# EAGLE library part BLOX-NEO-6M (library microduino)
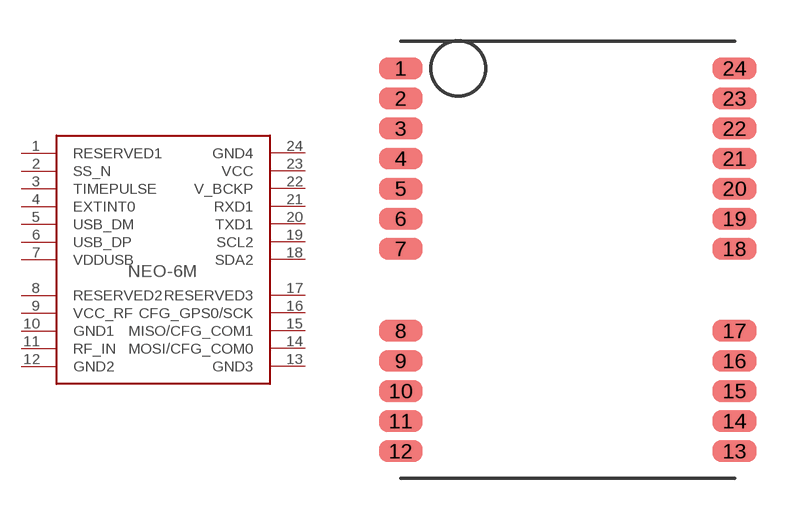
[diagram p0: symbol with the pads of NE0-6M; footprint NE0-6M]

Designator prefix -

## BLOX-NEO-6M  [NE0-6M]
1  RESERVED1  in
2  SS_N  in
3  TIMEPULSE  out
4  EXTINT0  in
5  USB_DM
6  USB_DP
7  VDDUSB  in
8  RESERVED2  nc
9  VCC_RF  out
10  GND1  in
11  RF_IN  in
12  GND2  in
13  GND3  in
14  MOSI/CFG_COM0
15  MISO/CFG_COM1  in
16  CFG_GPS0/SCK  in
17  RESERVED3  in
18  SDA2
19  SCL2
20  TXD1  out
21  RXD1  in
22  V_BCKP  in
23  VCC  in
24  GND4  in

## Footprint NE0-6M (pad centres in mm)
smd 1.6 x 0.8: 1 -6.1,14; 2 -6.1,12.9; 3 -6.1,11.8; 4 -6.1,10.7; 5 -6.1,9.6; 6 -6.1,8.5; 7 -6.1,7.4; 8 -6.1,4.4; 9 -6.1,3.3; 10 -6.1,2.2; 11 -6.1,1.1; 12 -6.1,0; 13 6.1,0; 14 6.1,1.1; 15 6.1,2.2; 16 6.1,3.3; 17 6.1,4.4; 18 6.1,7.4; 19 6.1,8.5; 20 6.1,9.6; 21 6.1,10.7; 22 6.1,11.8; 23 6.1,12.9; 24 6.1,14